# Altium footprint library PCB Passives.PcbLib: 47 footprints (part 3 of 3)
Each footprint in its own frame and in the unit in brackets; x right, y up, seen from the top. Pads: shape width x height; smd on the part's side, far side on the other; paste and mask are expansions set on the pad; w line width, h text height; cw(c..) or ccw(c..) is an arc to the next point about the centre after c.
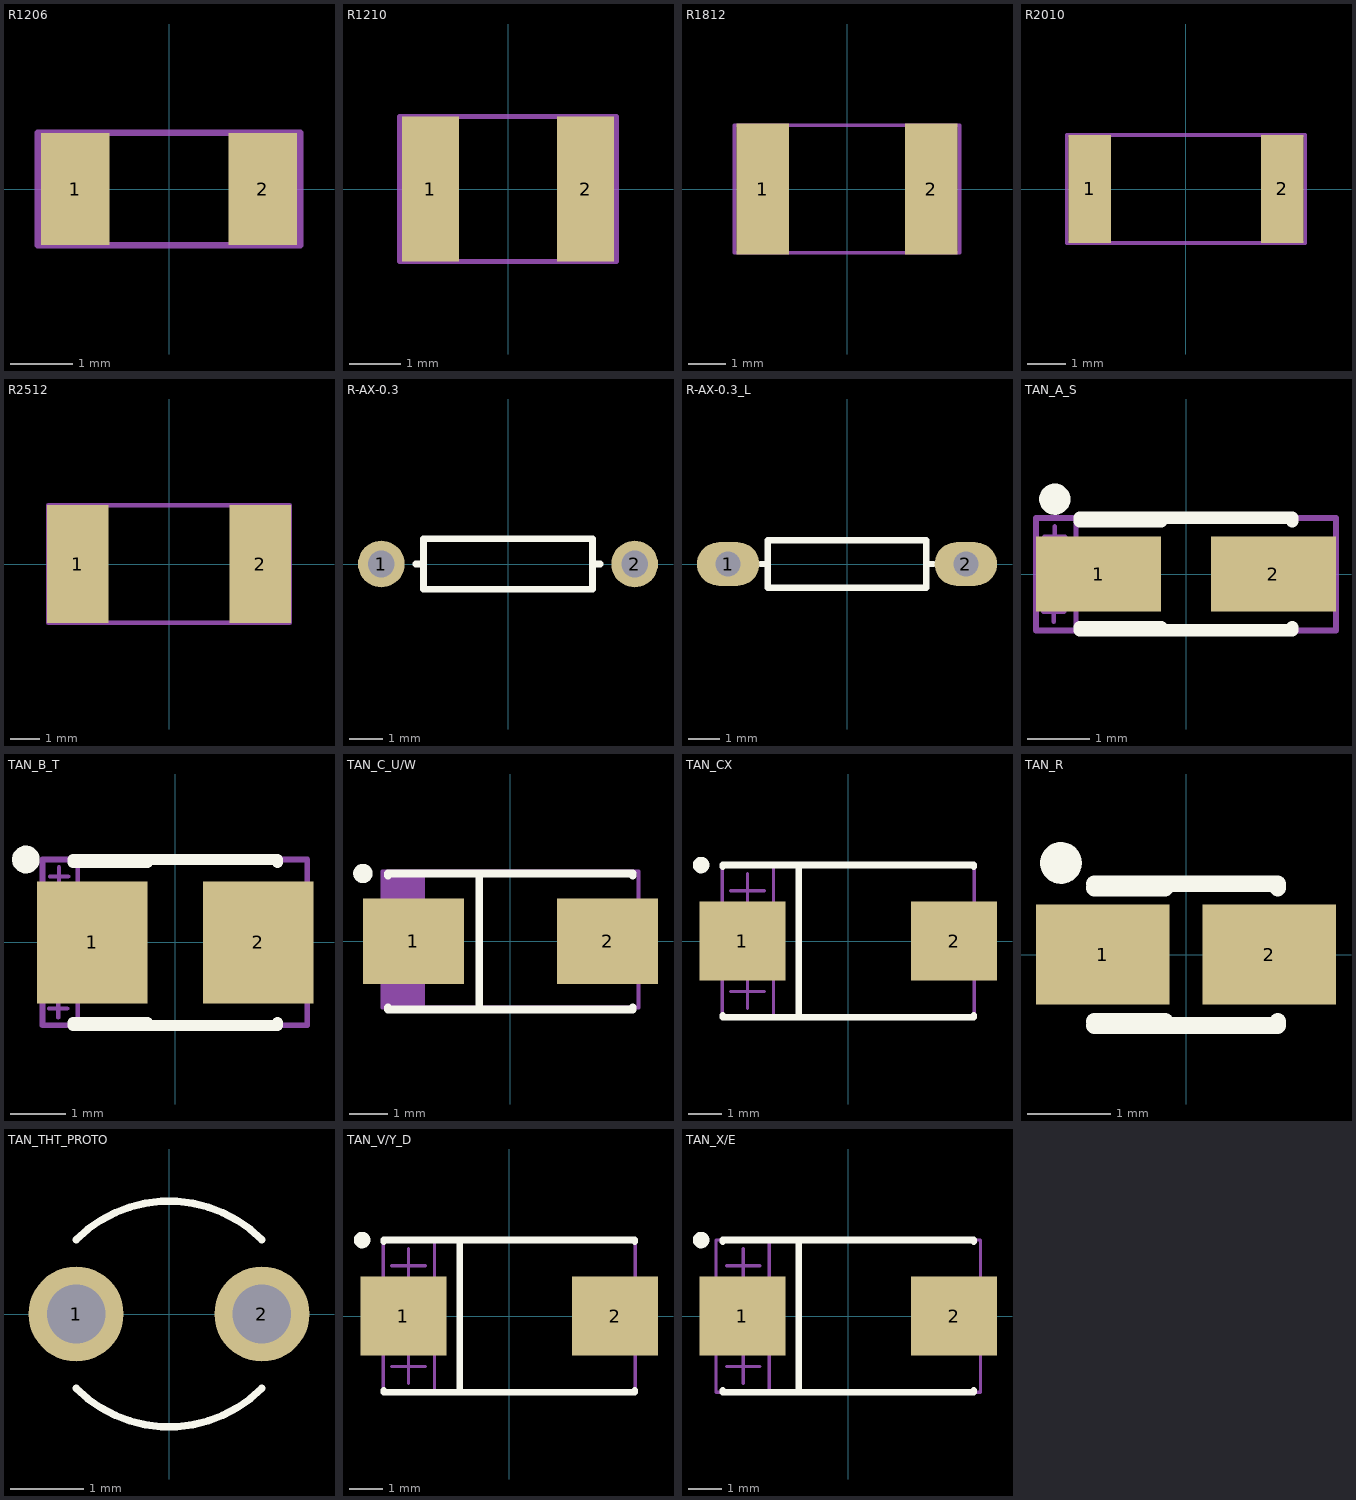
[diagram p2: the footprints below, top view; thin cyan lines are the x and y axes]

## R1206 [mm] "1206 resistor"
pads (2):
  rect 1.1x1.8 smd: 1(-1.5,0) 2(1.5,0)
Mechanical 29:
  lines w0.1: -2.1,-0.9 2.1,-0.9 2.1,0.9 -2.1,0.9 -2.1,-0.9
  text ".Designator" at -1.8,-0.3 h0.7
3D body "RES_1206.step": height 0.6, standoff 0, extent -1.6,-0.8 1.6,0.8

## R1210 [mm] "1210 resistor"
pads (2):
  rect 1.1x2.8 smd: 1(-1.5,0) 2(1.5,0)
Mechanical 29:
  lines w0.1: -2.1,-1.4 -2.1,1.4 2.1,1.4 2.1,-1.4 -2.1,-1.4
  text ".Designator" at -1.8,-0.4 h0.8
3D body "User Library-SMD RESISTOR-1(1).step": height 0.59, standoff -0.01, extent -1.6,-1.25 1.6,1.25

## R1812 [mm] "1812 resistor"
pads (2):
  rect 1.4x3.5 smd: 1(-2.25,0) 2(2.25,0)
Mechanical 29:
  lines w0.1: -3,-1.7 3,-1.7 3,1.7 -3,1.7 -3,-1.7
  text ".Designator" at -2.6,-0.4 h1
3D body "User Library-SMD RESISTOR-1(2).step": height 0.59, standoff -0.01, extent -2.25,-1.6 2.25,1.6

## R2010 [mm] "2010 resistor"
pads (2):
  rect 1.1x2.8 smd: 1(-2.5,0) 2(2.5,0)
Mechanical 29:
  lines w0.1: -3.1,-1.4 -3.1,1.4 3.1,1.4 3.1,-1.4 -3.1,-1.4
  text ".Designator" at -1.905,-0.333 h1
3D body "User Library-SMD RESISTOR-1(3).step": height 0.59, standoff -0.01, extent -2.5,-1.25 2.5,1.25

## R2512 [mm] "2512 resistor"
pads (2):
  rect 2.1x4 smd: 1(-3.1,0) 2(3.1,0)
Mechanical 29:
  lines w0.15: -4.1,-2 4.1,-2 4.1,2 -4.1,2 -4.1,-2
  text ".Designator" at -3.6,-0.6 h1.5
3D body "RES_2512.step": height 0.59, standoff -0.01, extent -3.2,-1.6 3.2,1.6

## R-AX-0.3 [mm]
pads (2):
  round 1.4 hole 0.8: 1(-3.81,0) 2(3.81,0)
Top Overlay:
  lines w0.2: -2.769,0 -2.54,0 ; 2.769,0 2.54,0 ; 2.54,0 2.54,-0.762 -2.54,-0.762 -2.54,0.762 2.54,0.762 2.54,0
3D body "Res30 0_25W SilCoat.STEP": height 2.41, standoff -2, extent -4.11,-1.2 4.11,1.2

## R-AX-0.3_L [mm] "0.3 AXIAL RESISTOR, LARGE PADS"
pads (2):
  oval 2x1.4 hole 0.8: 1(-3.81,0) 2(3.81,0)
Top Overlay:
  lines w0.2: -2.769,0 -2.54,0 ; 2.769,0 2.54,0 ; 2.54,0 2.54,-0.762 -2.54,-0.762 -2.54,0.762 2.54,0.762 2.54,0
3D body "Res30 0_25W SilCoat.STEP": height 2.41, standoff -2, extent -4.11,-1.2 4.11,1.2

## TAN_A_S [mm] "Capacitor, SM Tantalum; Body 3.2 x 1.6 mm (LxW typ)"
height 2.2
pads (2):
  rect 2x1.2 smd: 1(-1.4,0) 2(1.4,0)
Top Overlay:
  circle w0.25: c-2.1,1.2 r0.125
  lines w0.2: -1.7,-0.9 1.7,-0.9 1.7,-0.85 ; -1.7,-0.85 -0.4,-0.85 ; -1.7,0.85 -0.4,0.85 ; -1.7,0.9 1.7,0.9 1.7,0.85
Mechanical 29:
  region: -1.72,0.9 -1.8,0.9 -1.8,-0.9 -1.72,-0.9
  lines w0.076: -2.281,-0.597 -1.951,-0.597 ; -2.265,0 -1.935,0 ; -2.265,0.597 -1.935,0.597 ; -2.116,-0.762 -2.116,-0.432 ; -2.1,-0.165 -2.1,0.165 ; -2.1,0.432 -2.1,0.762
  lines w0.1: -2.4,-0.9 2.4,-0.9 2.4,0.9 -2.4,0.9 -2.4,-0.9
  text ".Designator" at -1.4,-0.4 h0.8
3D body "CAPM-TANTA-YEL.stp": height 1.8, standoff 0, extent -1.72,-0.9 1.68,0.9

## TAN_B_T [mm] "Capacitor, SM Tantalum; Body 3.5 x 2.8 mm (LxW typ)"
height 2.5
pads (2):
  rect 2x2.2 smd: 1(-1.5,0) 2(1.5,0)
Top Overlay:
  circle w0.25: c-2.7,1.5 r0.125
  lines w0.2: -1.85,-1.5 1.85,-1.5 1.85,-1.45 ; -1.85,-1.45 -0.5,-1.45 ; -1.85,1.45 -0.5,1.45 ; -1.85,1.5 1.85,1.5 1.85,1.45
Mechanical 29:
  region: -1.72,1.5 -1.8,1.5 -1.8,-1.5 -1.72,-1.5
  lines w0.076: -2.281,-1.194 -1.951,-1.194 ; -2.281,-0.597 -1.951,-0.597 ; -2.265,0 -1.935,0 ; -2.265,0.597 -1.935,0.597 ; -2.265,1.194 -1.935,1.194 ; -2.116,-1.359 -2.116,-1.029 ; -2.116,-0.762 -2.116,-0.432 ; -2.1,-0.165 -2.1,0.165 ; -2.1,0.432 -2.1,0.762 ; -2.1,1.029 -2.1,1.359
  lines w0.1: -2.4,-1.5 -2.4,-0.9 -2.4,0.9 -2.4,1.5 -2,1.5 2.388,1.5 2.388,-1.5 -2,-1.5 -2.4,-1.5
  text ".Designator" at -0.889,-0.381 h0.8
3D body "B-3528-21.STEP": height 2.11, standoff 0, extent -1.97,-1.498 1.984,1.499

## TAN_C_U/W [mm] "Capacitor, SM Tantalum; Body 6.0 x 3.2 mm (LxW typ)"
height 3.4
pads (2):
  rect 2.6x2.2 smd: 1(-2.5,0) 2(2.5,0)
Top Overlay:
  circle w0.25: c-3.8,1.75 r0.125
  lines w0.2: -3.15,-1.7 -3.15,-1.75 3.15,-1.75 3.15,-1.7 ; -3.15,1.7 -3.15,1.75 3.15,1.75 3.15,1.7 ; -0.8,-1.75 -0.8,1.75
Mechanical 29:
  region: -2.2,1.8 -3.3,1.8 -3.3,-1.7 -2.2,-1.7
  lines w0.1: -3.3,-1.7 3.3,-1.7 3.3,1.8 -3.3,1.8 -3.3,-1.7
  text ".Designator" at -1.9,-0.4 h0.8
3D body "C-6032-28.STEP": height 2.79, standoff 0, extent -3.28,-1.713 3.28,1.8

## TAN_CX [mm] "Capacitor, SM Tantalum; Body 7.3 x 4.3 mm (LxW typ)"
height 3.1
pads (2):
  rect 2.6x2.4 smd: 1(-3.2,0) 2(3.2,0)
Top Overlay:
  circle w0.25: c-4.45,2.3 r0.125
  lines w0.2: -3.8,-2.25 -3.8,-2.3 3.8,-2.3 3.8,-2.25 ; -3.8,2.25 -3.8,2.3 3.8,2.3 3.8,2.25 ; -1.5,-2.3 -1.5,2.3
Mechanical 29:
  lines w0.1: -3.556,-1.524 -2.54,-1.524 ; -3.556,0 -2.54,0 ; -3.556,1.524 -2.54,1.524 ; -3.048,-2.032 -3.048,-1.016 ; -3.048,-0.508 -3.048,0.508 ; -3.048,1.016 -3.048,2.032 ; -2.261,-2.286 -2.261,2.286 ; -3.81,-2.286 -3.81,2.286 3.81,2.286 3.81,-2.286 -3.81,-2.286
  text ".Designator" at -0.889,-0.381 h0.9
3D body "1850355.STP": height 1.85, standoff 0, extent -3.7,-2.15 3.7,2.15

## TAN_R [mm] "Capacitor, SM Tantalum; Body 2.0 x 1.25 mm (LxW typ)"
height 1.2
pads (2):
  rect 1.6x1.2 smd: 1(-1,0) 2(1,0)
Top Overlay:
  circle w0.25: c-1.5,1.1 r0.125
  lines w0.2: -1.1,-0.85 1.1,-0.85 1.1,-0.8 ; -1.1,-0.8 -0.25,-0.8 ; -1.1,0.8 -0.25,0.8 ; -1.1,0.85 1.1,0.85 1.1,0.8

## TAN_THT_PROTO [mm]
pads (2):
  round 1.3 hole 0.8: 1(-1.27,0) 2(1.27,0)
Top Overlay:
  lines w0.102: -1.27,-1.016 ccw(c0,0.254) 1.27,-1.016 ; -1.27,1.016 cw(c0,-0.254) 1.27,1.016
3D body "SW3dPS-222-0001.STEP": height 12.84, standoff -11.16, extent -2.996,-1.587 2.996,1.588

## TAN_V/Y_D [mm] "Capacitor, SM Tantalum; Body 7.3 x 4.3 mm (LxW typ)"
height 3.1
pads (2):
  rect 2.6x2.4 smd: 1(-3.2,0) 2(3.2,0)
Top Overlay:
  circle w0.25: c-4.45,2.3 r0.125
  lines w0.2: -3.8,-2.25 -3.8,-2.3 3.8,-2.3 3.8,-2.25 ; -3.8,2.25 -3.8,2.3 3.8,2.3 3.8,2.25 ; -1.5,-2.3 -1.5,2.3
Mechanical 29:
  lines w0.1: -3.556,-1.524 -2.54,-1.524 ; -3.556,0 -2.54,0 ; -3.556,1.524 -2.54,1.524 ; -3.048,-2.032 -3.048,-1.016 ; -3.048,-0.508 -3.048,0.508 ; -3.048,1.016 -3.048,2.032 ; -2.261,-2.286 -2.261,2.286 ; -3.81,-2.286 3.81,-2.286 3.81,2.286 -3.81,2.286 -3.81,-2.286
  text ".Designator" at -0.889,-0.381 h0.9
3D body "CAPM-TANTD-YEL.stp": height 3.1, standoff 0, extent -3.748,-2.25 3.752,2.25

## TAN_X/E [mm] "Capacitor, SM Tantalum; Body 7.3 x 4.3 mm (LxW typ)"
height 4.3
pads (2):
  rect 2.6x2.4 smd: 1(-3.2,0) 2(3.2,0)
Top Overlay:
  circle w0.25: c-4.45,2.3 r0.125
  lines w0.2: -3.8,-2.25 -3.8,-2.3 3.8,-2.3 3.8,-2.25 ; -3.8,2.25 -3.8,2.3 3.8,2.3 3.8,2.25 ; -1.5,-2.3 -1.5,2.3
Mechanical 29:
  lines w0.1: -3.683,-1.524 -2.667,-1.524 ; -3.683,0 -2.667,0 ; -3.683,1.524 -2.667,1.524 ; -3.175,-2.032 -3.175,-1.016 ; -3.175,-0.508 -3.175,0.508 ; -3.175,1.016 -3.175,2.032 ; -2.388,-2.286 -2.388,2.286 ; -4,-2.3 -4,2.3 4,2.3 4,-2.3 -4,-2.3
  text ".Designator" at -1.9,-0.3 h0.8
3D body "X-7343-43.STEP": height 3.91, standoff 0, extent -3.956,-2.326 3.948,2.327